# Altium schematic symbol library My_AD_Lib.SCHLIB: 3 symbols
Pins are listed as number, name and electrical type; pins without a type are passive.

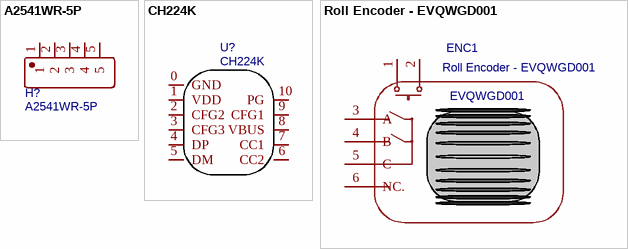
[diagram p0: symbols A2541WR-5P to Roll Encoder - EVQWGD001]

## A2541WR-5P
designator H?
BOM_Manufacturer: Changjiang Connectors; Contributor: LCSC; BOM_Supplier: LCSC; BOM_Supplier Part: C225491; BOM_Manufacturer Part: A2541WR-5P; BOM_JLCPCB Part Class: Extended Part; spicePre: H; spiceSymbolName: A2541WR-5P
footprint HDR-TH_5P-P2.54-H-W10.0
pins: 1, 2, 3, 4, 5

## CH224K
designator U?
Contributor: 小茅; spicePre: U; spiceSymbolName: CH224K
footprint ESSOP-10_L5.0-W3.9
pins: 0 GND, 1 VDD, 2 CFG2, 3 CFG3, 4 DP, 5 DM, 6 CC2, 7 CC1, 8 VBUS, 9 CFG1, 10 PG

## Roll Encoder - EVQWGD001
designator U?
BOM_Manufacturer: Panasonic; Contributor: ChristAlix; BOM_Manufacturer Part: EVQWGD001; BOM_Supplier: Aliexpress; BOM_Supplier Part: EVQWGD001; spicePre: U; spiceSymbolName: Roll Encoder - EVQWGD001
footprint EVQWGD001 ENCODER
pins: 1 SW1, 2 SW2, 3 A, 4 B, 5 C, 6 NC.
text: ENC1